# EAGLE library part MT9V032 (library Traficon)
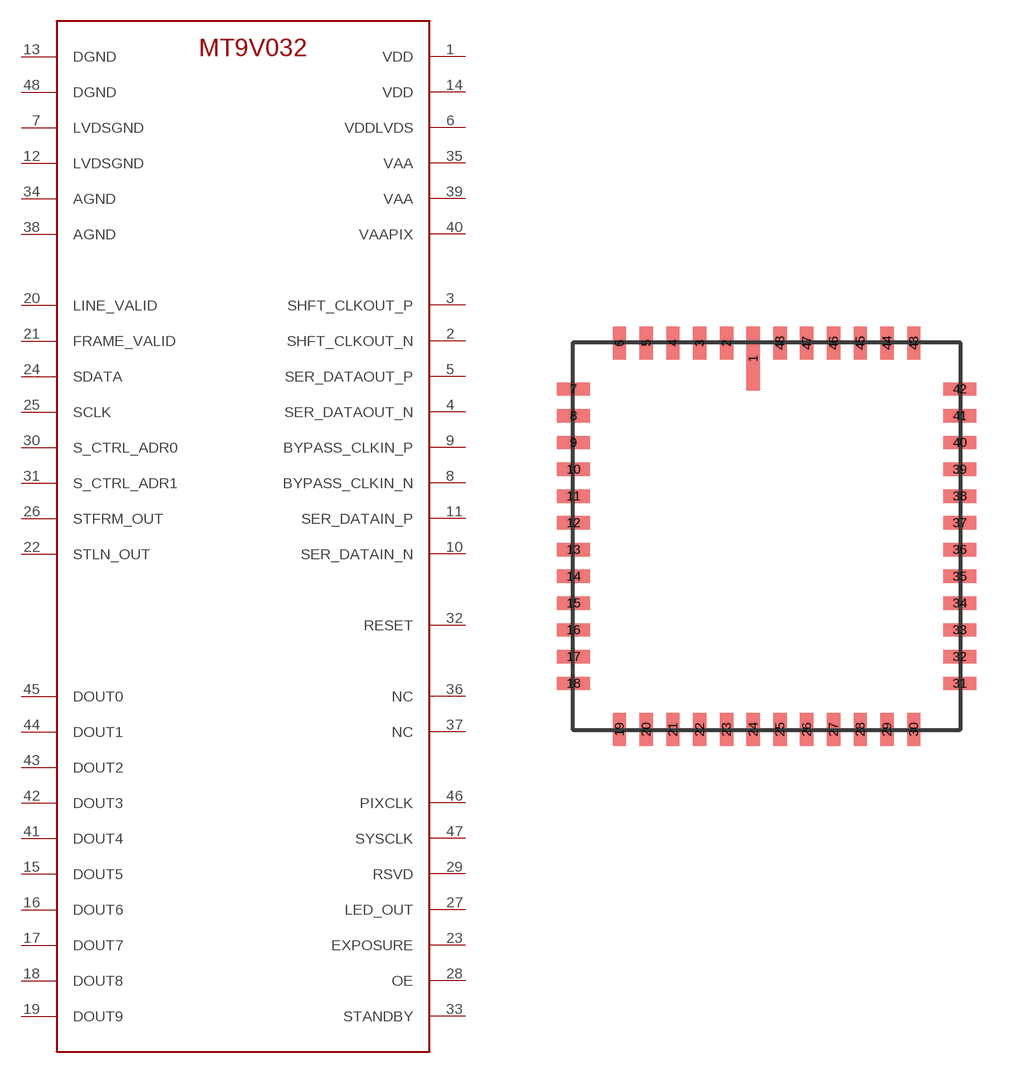
[diagram p80: symbol with the pads of LCC48; footprint LCC48]

Designator prefix U

## MT9V032  [LCC48]
1  VDD  pwr
2  SHFT_CLKOUT_N  out
3  SHFT_CLKOUT_P  out
4  SER_DATAOUT_N  out
5  SER_DATAOUT_P  out
6  VDDLVDS  pwr
7  LVDSGND  pwr
8  BYPASS_CLKIN_N  in
9  BYPASS_CLKIN_P  in
10  SER_DATAIN_N  in
11  SER_DATAIN_P  in
12  LVDSGND  pwr
13  DGND  pwr
14  VDD  pwr
15  DOUT5  out
16  DOUT6  out
17  DOUT7  out
18  DOUT8  out
19  DOUT9  out
20  LINE_VALID  out
21  FRAME_VALID  out
22  STLN_OUT
23  EXPOSURE  in
24  SDATA
25  SCLK  in
26  STFRM_OUT
27  LED_OUT  out
28  OE  in
29  RSVD  in
30  S_CTRL_ADR0  in
31  S_CTRL_ADR1  in
32  RESET  in
33  STANDBY  in
34  AGND  pwr
35  VAA  pwr
36  NC  nc
37  NC  nc
38  AGND  pwr
39  VAA  pwr
40  VAAPIX  pwr
41  DOUT4  out
42  DOUT3  out
43  DOUT2  out
44  DOUT1  out
45  DOUT0  out
46  PIXCLK  out
47  SYSCLK  in
48  DGND  pwr

## Footprint LCC48 (pad centres in mm)
smd 0.4 x 1.92: 1 -0.4,5.31
smd 0.4 x 0.99: 2 -1.2,5.775; 3 -2,5.775; 4 -2.8,5.775; 5 -3.6,5.775; 6 -4.4,5.775; 19 -4.4,-5.775; 20 -3.6,-5.775; 21 -2.8,-5.775; 22 -2,-5.775; 23 -1.2,-5.775; 24 -0.4,-5.775; 25 0.4,-5.775; 26 1.2,-5.775; 27 2,-5.775; 28 2.8,-5.775; 29 3.6,-5.775; 30 4.4,-5.775; 43 4.4,5.775; 44 3.6,5.775; 45 2.8,5.775; 46 2,5.775; 47 1.2,5.775; 48 0.4,5.775
smd 0.99 x 0.4: 7 -5.775,4.4; 8 -5.775,3.6; 9 -5.775,2.8; 10 -5.775,2; 11 -5.775,1.2; 12 -5.775,0.4; 13 -5.775,-0.4; 14 -5.775,-1.2; 15 -5.775,-2; 16 -5.775,-2.8; 17 -5.775,-3.6; 18 -5.775,-4.4; 31 5.775,-4.4; 32 5.775,-3.6; 33 5.775,-2.8; 34 5.775,-2; 35 5.775,-1.2; 36 5.775,-0.4; 37 5.775,0.4; 38 5.775,1.2; 39 5.775,2; 40 5.775,2.8; 41 5.775,3.6; 42 5.775,4.4